# Altium footprint library LEDS.PcbLib: 2 footprints
Each footprint in its own frame and in the unit in brackets; x right, y up, seen from the top. Pads: shape width x height; smd on the part's side, far side on the other; paste and mask are expansions set on the pad; w line width, h text height; cw(c..) or ccw(c..) is an arc to the next point about the centre after c.
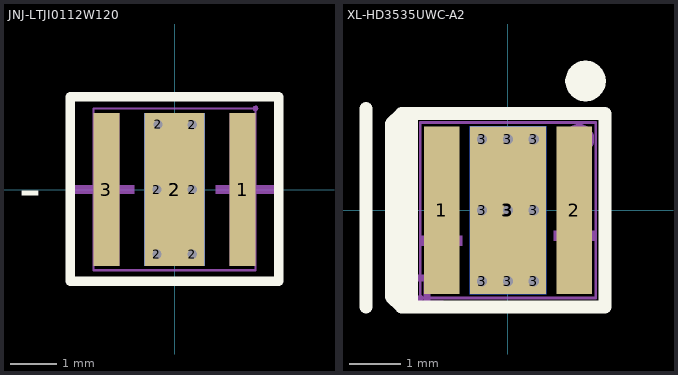
[diagram p0: the footprints below, top view; thin cyan lines are the x and y axes]

## JNJ-LTJI0112W120 [mm]
pads (10):
  rect 0.559x3.299 smd: 1(1.471,0) 3(-1.471,0)
  round 0.35 hole 0.2: 2(-0.381,-1.397) 2(-0.381,0) 2(-0.356,1.407) 2(0.381,-1.397) 2(0.381,0) 2(0.381,1.397)
  rect 1.3x3.299 smd: 2(0,0)
  rect 1.3x3.299 smd far side: 2(0,0)
Top Overlay:
  lines w0.201: -2.25,-1.979 -2.25,2.002 2.25,2.002 2.25,-1.979 -2.25,-1.979
  text "-" at -3.36,-0.46 h1
Mechanical 2:
  region: -0.866,0.091 -2.156,0.091 -2.156,-0.089 -0.866,-0.089
  region: 1.646,-0.63 1.646,0.66 1.466,0.66 1.466,-0.63
  region: 2.184,0.091 0.894,0.091 0.894,-0.089 2.184,-0.089
Mechanical 6:
  lines w0.051: -1.75,-1.748 1.75,-1.748 1.75,1.75 -1.75,1.75 -1.75,-1.748
Mechanical 8:
  region: 1.808,1.75 1.801,1.72 1.775,1.697 1.74,1.692 1.709,1.707 1.692,1.735 1.692,1.768 1.709,1.796 1.74,1.811 1.775,1.806 1.801,1.783
Mechanical 9:
  region: 1.189,1.651 1.75,1.651 1.75,-1.648 1.189,-1.648
  region: -0.65,1.651 0.65,1.651 0.65,-1.648 -0.65,-1.648
  region: -1.75,1.651 -1.191,1.651 -1.191,-1.648 -1.75,-1.648

## XL-HD3535UWC-A2 [mm]
pads (13):
  rect 0.701x3.299 smd: 1(-1.298,0) 2(1.3,0)
  round 0.35 hole 0.2: 3(-0.508,-1.397) 3(-0.508,0) 3(-0.508,1.397) 3(0,-1.397) 3(0,0) 3(0,1.397) 3(0.508,-1.397) 3(0.508,0) 3(0.508,1.397)
  rect 1.501x3.299 smd: 3(0,0)
  rect 1.501x3.299 smd far side: 3(0,0)
Top Overlay:
  region: -1.895,1.9 -2.093,1.9 -2.294,1.699 -2.294,-1.6 -2.294,-1.699 -2.093,-1.9 -1.895,-1.9
  lines w0.254: -2.794,-1.9 -2.794,1.999 ; -1.895,-1.9 -2.093,-1.9 -2.294,-1.699 -2.294,1.699 -2.093,1.9 -1.895,1.9 ; -1.9,-1.905 -1.9,1.905 1.91,1.905 1.91,-1.905 -1.9,-1.905
  lines w0.399: 1.326,2.54 1.336,2.479 1.364,2.423 1.407,2.377 1.463,2.349 1.524,2.339 1.587,2.349 1.643,2.377 1.687,2.423 1.714,2.479 1.725,2.54 1.714,2.601 1.687,2.657 1.643,2.703 1.587,2.73 1.524,2.741 1.463,2.73 1.407,2.703 1.364,2.657 1.336,2.601 1.326,2.54
Mechanical 2:
  region: 1.702,-0.399 1.702,-0.599 0.902,-0.599 0.902,-0.399
  region: 1.402,-0.899 1.201,-0.899 1.201,-0.099 1.402,-0.099
  region: -0.899,-0.5 -0.899,-0.701 -1.699,-0.701 -1.699,-0.5
  region: -1.524,-1.778 -1.524,-1.27 -1.651,-1.27 -1.651,-1.778
  region: -1.651,-1.27 -1.778,-1.27 -1.778,-1.397 -1.651,-1.397
  region: -1.905,-1.778 -1.27,-1.778 -1.27,-1.905 -1.905,-1.905
  lines w0.3: 1.247,1.397 1.257,1.346 1.283,1.3 1.323,1.267 1.372,1.25 1.425,1.25 1.473,1.267 1.514,1.3 1.539,1.346 1.547,1.397 1.539,1.448 1.514,1.494 1.473,1.527 1.425,1.544 1.372,1.544 1.323,1.527 1.283,1.494 1.257,1.448 1.247,1.397
Mechanical 6:
  lines w0.051: -1.725,-1.725 -1.725,1.725 1.727,1.725 1.727,-1.725 -1.725,-1.725
Mechanical 8:
  region: -1.664,-1.725 -1.674,-1.758 -1.699,-1.781 -1.732,-1.783 -1.763,-1.77 -1.781,-1.742 -1.781,-1.707 -1.763,-1.679 -1.732,-1.666 -1.699,-1.671 -1.674,-1.692
Mechanical 9:
  region: -1.549,1.626 -1.049,1.626 -1.049,0.3 -1.308,0 -1.049,-0.3 -1.049,-1.626 -1.549,-1.626
  region: -0.65,1.626 0.65,1.626 0.65,-1.626 -0.65,-1.626
  region: 1.052,1.626 1.552,1.626 1.552,-1.626 1.052,-1.626